# EAGLE library part MK12C02 (library badge)
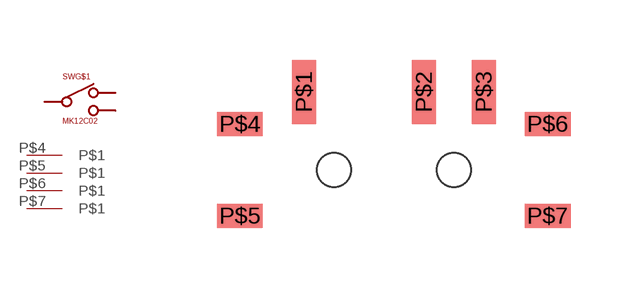
[diagram p0: symbol with the pads of MK12C02; footprint MK12C02]

Designator prefix SW; gates G$1=MK12C02 G$2=PIN G$3=PIN G$4=PIN G$5=PIN

## MK12C02  [MK12C02]
P$1  G$1:P$2
P$2  G$1:P$1
P$3  G$1:P$3
P$4  G$2:P$1
P$5  G$3:P$1
P$6  G$4:P$1
P$7  G$5:P$1

## Footprint MK12C02 (pad centres in mm)
smd 0.6 x 1.6: P$1 -2.25,1.95; P$2 0.75,1.95; P$3 2.25,1.95
smd 1.15 x 0.6: P$4 -3.85,1.15; P$5 -3.85,-1.15; P$6 3.85,1.15; P$7 3.85,-1.15
hole 0.85 at -1.5,0
hole 0.85 at 1.5,0